# Altium schematic symbol library Symbol.SchLib: 19 symbols
Pins are listed as number, name and electrical type; pins without a type are passive.

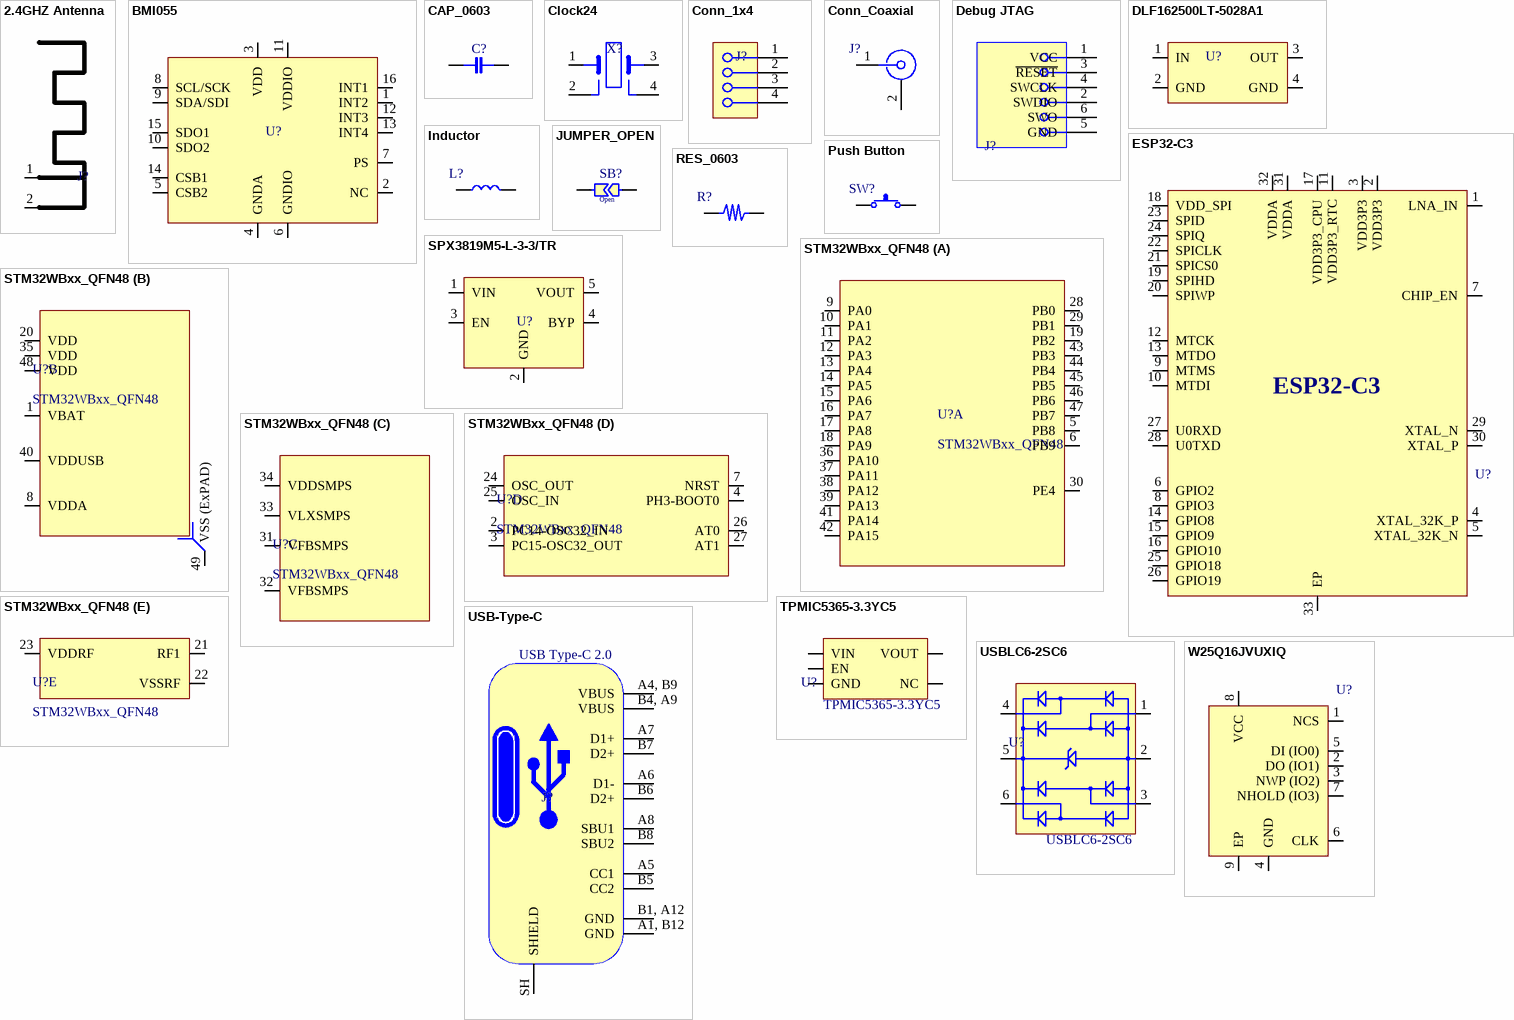
[diagram p0: symbols 2.4GHZ Antenna to W25Q16JVUXIQ]

## 2.4GHZ Antenna
designator J?  (value not drawn)  (net tie, no BOM)
Antenna Wifi
pins: 1, 2

## BMI055
designator U?  (value not drawn)
LGA-16(3x4.5) Attitude Sensor/Gyroscope
pins: 1 INT2, 2 NC, 3 VDD, 4 GNDA, 5 CSB2, 6 GNDIO, 7 PS, 8 SCL/SCK, 9 SDA/SDI, 10 SDO2, 11 VDDIO, 12 INT3, 13 INT4, 14 CSB1, 15 SDO1, 16 INT1

## CAP_0603
designator C?  (value not drawn)
Capacitor SMD, 0603; Mfr. Part #: *; LCSC Part #: *; Digikey Part #: *; Part Type: *; Value: *; Mfr Name: *
pins: 1, 2

## Clock24
designator X?, comment CLOK24  (value not drawn)
pins: 1, 2, 3, 4

## Conn_1x4
designator J?  (value not drawn)
pins: 1, 2, 3, 4

## Conn_Coaxial
designator J?  (value not drawn)
Coaxial Connector
pins: 1, 2

## Debug JTAG
designator J?  (value not drawn)
pins: 1 VCC, 2 SWDIO, 3 ~{RESET}, 4 SWCLK, 5 GND, 6 SWO

## DLF162500LT-5028A1
designator U?  (value not drawn)
0.33dB SMD-4P,0.8x1.6mm RF Filters; LCSC Part #: *; Digikey Part #: *; Mfr. Part #: *
footprint SMD-4P,0.8x1.6mm
pins: 1 IN, 2 GND, 3 OUT, 4 GND

## ESP32-C3
designator U?  (value not drawn)
400KB 22 3V~3.6V RISC-V 160MHz QFN-32-EP(5x5) Microcontroller Units (MCUs/MPUs/SOCs) ROHS
pins: 1 LNA_IN, 2 VDD3P3, 3 VDD3P3, 4 XTAL_32K_P, 5 XTAL_32K_N, 6 GPIO2, 7 CHIP_EN, 8 GPIO3, 9 MTMS, 10 MTDI, 11 VDD3P3_RTC, 12 MTCK, 13 MTDO, 14 GPIO8, 15 GPIO9, 16 GPIO10, 17 VDD3P3_CPU, 18 VDD_SPI, 19 SPIHD, 20 SPIWP, 21 SPICS0, 22 SPICLK, 23 SPID, 24 SPIQ, 25 GPIO18, 26 GPIO19, 27 U0RXD, 28 U0TXD, 29 XTAL_N, 30 XTAL_P, 31 VDDA, 32 VDDA, 33 EP

## Inductor
designator L?  (value not drawn)
pins: 1, 2

## JUMPER_OPEN
designator SB?, comment value Open  (hidden comment: Jumper_Open)
Jumper Open
pins: 1, 2

## Push Button
designator SW?  (value not drawn)
pins: 1, 2

## RES_0603
designator R?  (value not drawn)
Resistor, SMD, 0603; Mfr. Part #: *; LCSC Part #: *; Digikey Part #: *; Part Type: *; Value: *; Mfr Name: *
pins: 1, 1

## SPX3819M5-L-3-3/TR
designator U?  (value not drawn)
500mA 70dB Fixed 3.3V Positive electrode 16V SOT-23-5 Linear Voltage Regulators (LDO)
pins: 1 VIN, 2 GND, 3 EN, 4 BYP, 5 VOUT

## STM32WBxx_QFN48
designator U?
STM32WBxx QFN48; Mfr. Part #: *; LCSC Part #: *; Part Type: *; Mfr Name: *; Value: *; Digikey Part #: *
part A pins: 5 PB8, 6 PB9, 9 PA0, 10 PA1, 11 PA2, 12 PA3, 13 PA4, 14 PA5, 15 PA6, 16 PA7, 17 PA8, 18 PA9, 19 PB2, 28 PB0, 29 PB1, 30 PE4, 36 PA10, 37 PA11, 38 PA12, 39 PA13, 41 PA14, 42 PA15, 43 PB3, 44 PB4, 45 PB5, 46 PB6, 47 PB7
part B pins: 1 VBAT, 8 VDDA, 20 VDD, 35 VDD, 40 VDDUSB, 48 VDD, 49 VSS (ExPAD)
part C pins: 31 VFBSMPS, 32 VFBSMPS, 33 VLXSMPS, 34 VDDSMPS
part D pins: 2 PC14-OSC32_IN, 3 PC15-OSC32_OUT, 4 PH3-BOOT0, 7 NRST, 24 OSC_OUT, 25 OSC_IN, 26 AT0, 27 AT1
part E pins: 21 RF1, 22 VSSRF, 23 VDDRF

## TPMIC5365-3.3YC5
designator U?
SOT-353 Linear Voltage Regulators (LDO); Mfr. Part #: TPMIC5365-3.3YC5; Digikey Part #: *; LCSC Part #: *; Part Type: *; Mfr Name: *; Value: TPMIC5365-3.3YC5
footprint SOT-353 (SOT23, 5-Leads, Body 2.03x2.13mm, Pitch 0.65mm, IPC Medium Density)
pins: 1 VIN, 2 GND, 3 EN, 4 NC, 5 VOUT

## USB-Type-C
designator J?  value USB Type-C 2.0  (hidden comment: USB-Type-C)
USB Type C; Mfr. Part #: *; LCSC Part #: *; Digikey Part #: *; Mfr Name: *; Part Type: *
pins: A1, B12 GND, A4, B9 VBUS, A5 CC1, A6 D1-, A7 D1+, A8 SBU1, B1, A12 GND, B4, A9 VBUS, B5 CC2, B6 D2+, B7 D2+, B8 SBU2, SH SHIELD

## USBLC6-2SC6
designator U?
15V 6V SOT-23-6 Electrostatic and Surge Protection (TVS/ESD); Mfr. Part #: USBLC6-2SC6; Digikey Part #: *; LCSC Part #: *; Mfr Name: *; Part Type: *; In-Stock: *; Value: USBLC6-2SC6
pins: 1 I/O1, 2 GND, 3 I/O2, 4 I/O2, 5 VBUS, 6 I/O1

## W25Q16JVUXIQ
designator U?  (value not drawn)
USON-8-EP(2x3) NOR FLASH ROHS; Parameter 1: *
pins: 1 NCS, 2 DO (IO1), 3 NWP (IO2), 4 GND, 5 DI (IO0), 6 CLK, 7 NHOLD (IO3), 8 VCC, 9 EP